# Altium footprint library ElecControl.PcbLib: 7 footprints
Each footprint in its own frame and in the unit in brackets; x right, y up, seen from the top. Pads: shape width x height; smd on the part's side, far side on the other; paste and mask are expansions set on the pad; w line width, h text height; cw(c..) or ccw(c..) is an arc to the next point about the centre after c.
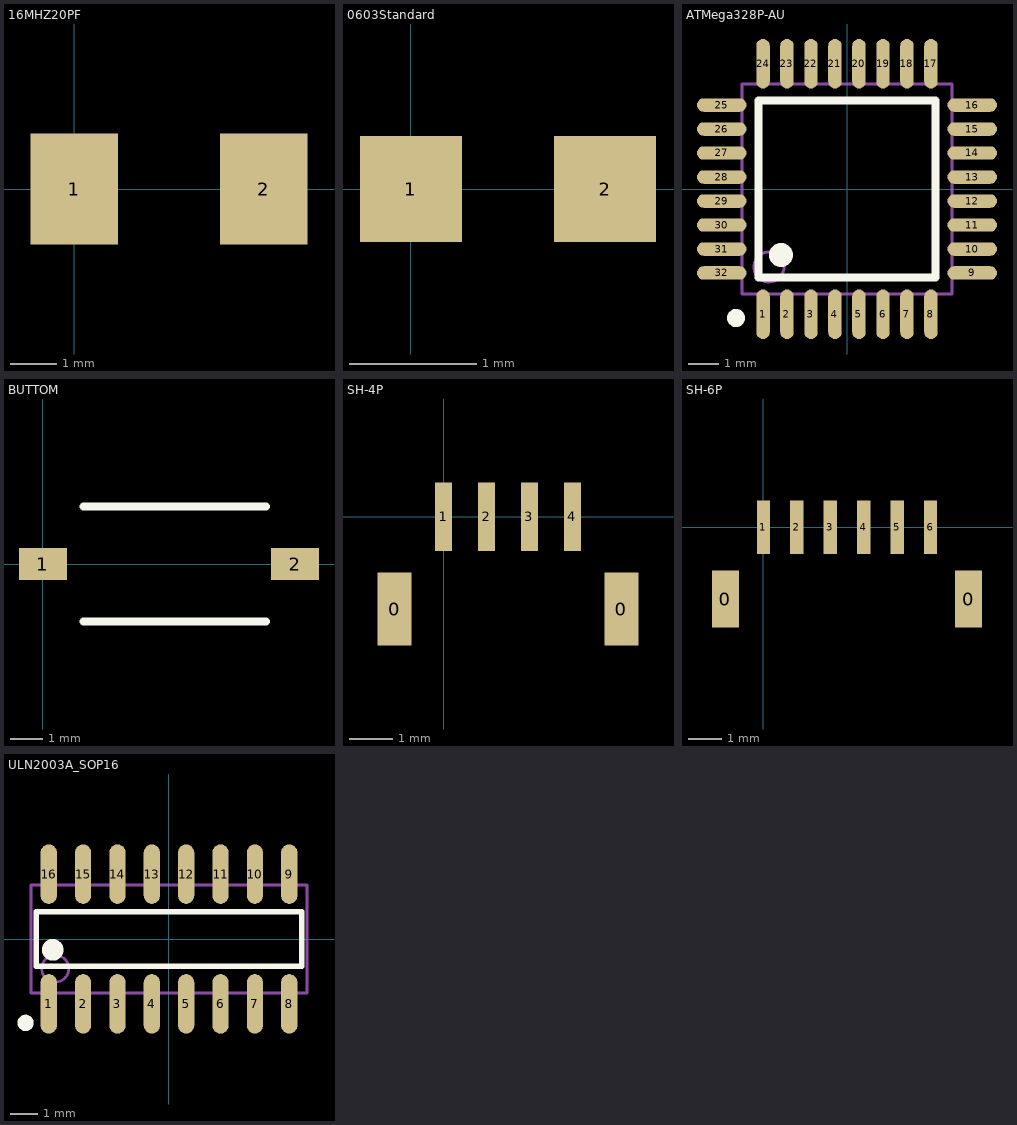
[diagram p0: the footprints below, top view; thin cyan lines are the x and y axes]

## 16MHZ20PF [mm]
pads (2):
  rect 1.9x2.4 smd: 1(0,0) 2(4.1,0)

## 0603Standard [mm]
pads (2):
  rect 0.8x0.83 smd: 1(0,0) 2(1.524,0)

## ATMega328P-AU [mm]
pads (32):
  oval 0.45x1.65 smd: 1(-2.8,-4.175) 2(-2,-4.175) 3(-1.2,-4.175) 4(-0.4,-4.175) 5(0.4,-4.175) 6(1.2,-4.175) 7(2,-4.175) 8(2.8,-4.175) 17(2.8,4.175) 18(2,4.175) 19(1.2,4.175) 20(0.4,4.175) 21(-0.4,4.175) 22(-1.2,4.175) 23(-2,4.175) 24(-2.8,4.175)
  oval 1.65x0.45 smd: 9(4.175,-2.8) 10(4.175,-2) 11(4.175,-1.2) 12(4.175,-0.4) 13(4.175,0.4) 14(4.175,1.2) 15(4.175,2) 16(4.175,2.8) 25(-4.175,2.8) 26(-4.175,2) 27(-4.175,1.2) 28(-4.175,0.4) 29(-4.175,-0.4) 30(-4.175,-1.2) 31(-4.175,-2) 32(-4.175,-2.8)
Top Overlay:
  circle w0.4: c-2.2,-2.2 r0.2
  circle w0.3: c-3.7,-4.3 r0.15
  lines w0.254: -2.95,-2.95 2.95,-2.95 2.95,2.95 -2.95,2.95 -2.95,-2.95
Mechanical 13:
  circle w0.1: c-2.6,-2.6 r0.5
  lines w0.1: -3.5,-3.5 3.5,-3.5 3.5,3.5 -3.5,3.5 -3.5,-3.5

## BUTTOM [mm]
pads (2):
  rect 1.5x1 smd: 1(0,0) 2(7.9,0)
Top Overlay:
  lines w0.254: 1.27,-1.8 6.985,-1.8 ; 1.27,1.8 6.985,1.8

## SH-4P [mm]
pads (6):
  rect 0.8x1.7 smd: 0(-1.14,-2.15) 0(4.14,-2.15)
  rect 0.4x1.6 smd: 1(0,0) 2(1,0) 3(2,0) 4(3,0)

## SH-6P [mm]
pads (8):
  rect 0.8x1.7 smd: 0(-1.14,-2.15) 0(6.14,-2.15)
  rect 0.4x1.6 smd: 1(0,0) 2(1,0) 3(2,0) 4(3,0) 5(4,0) 6(5,0)

## ULN2003A_SOP16 [mm]
pads (16):
  oval 0.6x2.2 smd: 1(-4.445,-2.4) 2(-3.175,-2.4) 3(-1.905,-2.4) 4(-0.635,-2.4) 5(0.635,-2.4) 6(1.905,-2.4) 7(3.175,-2.4) 8(4.445,-2.4) 9(4.445,2.4) 10(3.175,2.4) 11(1.905,2.4) 12(0.635,2.4) 13(-0.635,2.4) 14(-1.905,2.4) 15(-3.175,2.4) 16(-4.445,2.4)
Top Overlay:
  circle w0.3: c-5.3,-3.1 r0.15
  circle w0.4: c-4.3,-0.4 r0.2
  lines w0.2: -4.9,-1 -4.9,1 4.9,1 4.9,-1 -4.9,-1
Mechanical 13:
  circle w0.1: c-4.205,-1.095 r0.5
  lines w0.1: -5.105,-1.995 -5.105,1.995 5.105,1.995 5.105,-1.995 -5.105,-1.995